# Altium footprint library PCB - LEADED - SMT_SN74LVC2GU04DCKR.PCBLIB: 1 footprints
Each footprint in its own frame and in the unit in brackets; x right, y up, seen from the top. Pads: shape width x height; smd on the part's side, far side on the other; paste and mask are expansions set on the pad; w line width, h text height; cw(c..) or ccw(c..) is an arc to the next point about the centre after c.
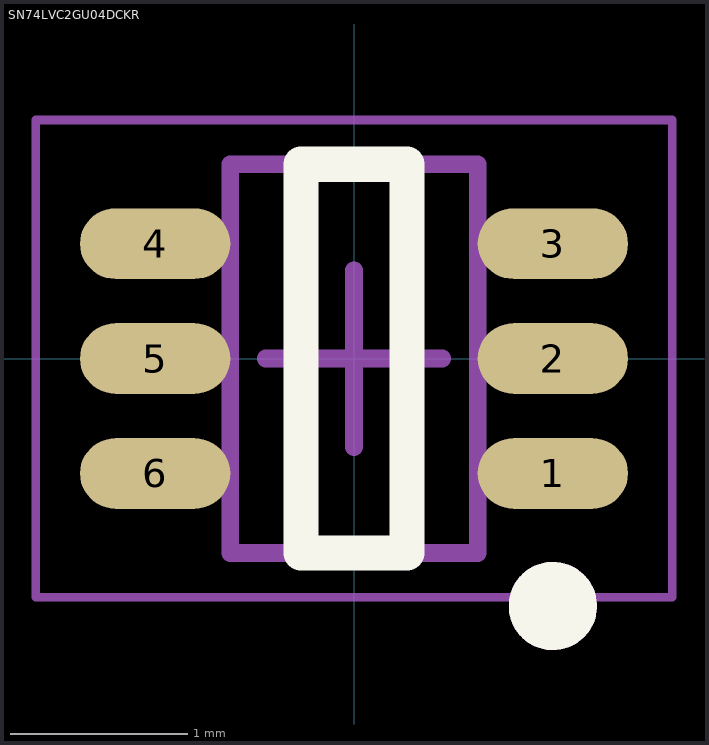
[diagram p0: the footprint, top view; thin cyan lines are the x and y axes]

## SN74LVC2GU04DCKR [mm] "TSOP, 6-Leads, Body 2,00x1,25mm, Pitch 0,65mm, IPC Medium Density"
height 1.1
pads (6):
  oval 0.85x0.4 smd: 1(1.125,-0.65) 2(1.125,0) 3(1.125,0.65) 4(-1.125,0.65) 5(-1.125,0) 6(-1.125,-0.65)
Top Overlay:
  circle w0.25: c1.125,-1.4 r0.125
  lines w0.2: -0.3,-1.1 -0.3,1.1 0.3,1.1 0.3,-1.1 -0.3,-1.1
Top 3D Body:
  lines w0.1: -0.7,-1.1 -0.7,1.1 0.7,1.1 0.7,-1.1 -0.7,-1.1
Top Assembly:
  circle w0.25: c1.125,-1.4 r0.125
  lines w0.1: -0.7,-1.1 0.7,-1.1 0.7,1.1 -0.7,1.1 -0.7,-1.1
Top Courtyard:
  lines w0.05: -1.8,-1.35 1.8,-1.35 1.8,1.35 -1.8,1.35 -1.8,-1.35
Top Designator:
  text ".Designator" at -1.778,2.921 h1
Top Component Center:
  lines w0.1: -0.5,0 0.5,0 ; 0,-0.5 0,0.5
Top Value (Mech13):
  text ".Comment" at -1.778,1.905 h1
3D body: height 1.1, standoff 0.1, extent -0.7,-1.1 0.7,1.1